# EAGLE library part ADUM5401 (library di_ic)
http://www.analog.com/static/imported-files/data_sheets/ADuM5401_5402_5403_5404.pdf
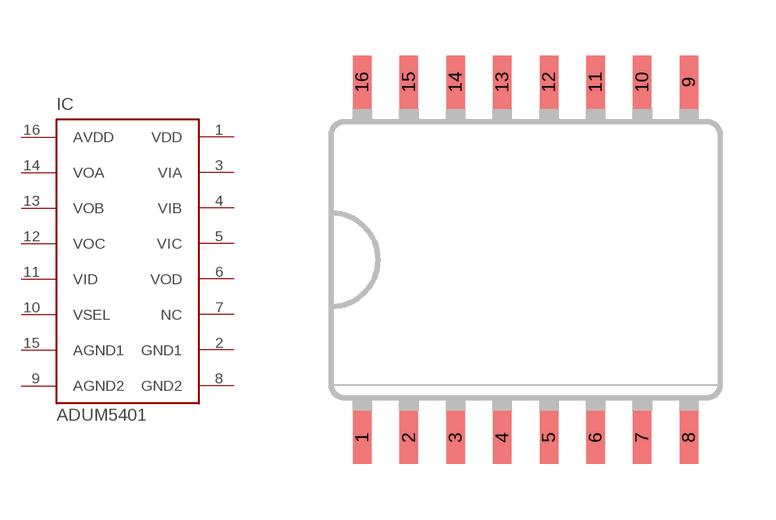
[diagram p6: symbol with the pads of SO16W; footprint SO16W]

Designator prefix IC

## ADUM5401  [SO16W]
1  VDD  pwr
2  GND1  pwr
3  VIA
4  VIB
5  VIC
6  VOD
7  NC
8  GND2  pwr
9  AGND2  pwr
10  VSEL
11  VID
12  VOC
13  VOB
14  VOA
15  AGND1  pwr
16  AVDD  pwr

## Footprint SO16W (pad centres in mm)
Small Outline Package .300 SIOC Source: http://www.maxim-ic.com/cgi-bin/packages?pkg=16%2FSOIC%2E300&Type=Max
smd 0.5 x 1.43: 1 -4.41,-4.8; 2 -3.15,-4.8; 3 -1.89,-4.8; 4 -0.63,-4.8; 5 0.63,-4.8; 6 1.89,-4.8; 7 3.15,-4.8; 8 4.41,-4.8; 9 4.41,4.8; 10 3.15,4.8; 11 1.89,4.8; 12 0.63,4.8; 13 -0.63,4.8; 14 -1.89,4.8; 15 -3.15,4.8; 16 -4.41,4.8